# Altium schematic symbol library LTC2325.SchLib: 1 symbol
Pins are listed as number, name and electrical type; pins without a type are passive.

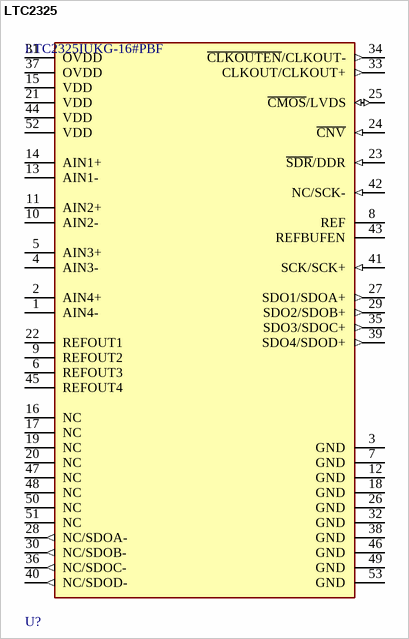
[diagram p0: symbol LTC2325]

## LTC2325
designator U?, comment LTC2325IUKG-16#PBF
IC ADC 16BIT SAR 52QFN
footprint FP-UKG-52-05-08-1729-MFG
footprint FP-UKG-52-05-08-1729-IPC_B
footprint FP-UKG-52-05-08-1729-IPC_A
footprint FP-UKG-52-05-08-1729-IPC_C
pins: 1 AIN4- (hiz), 2 AIN4+ (hiz), 3 GND (power), 4 AIN3- (hiz), 5 AIN3+ (hiz), 6 REFOUT3, 7 GND (power), 8 REF, 9 REFOUT2, 10 AIN2- (hiz), 11 AIN2+ (hiz), 12 GND (power), 13 AIN1- (hiz), 14 AIN1+ (hiz), 15 VDD (power), 16 NC, 17 NC, 18 GND (power), 19 NC, 20 NC, 21 VDD (power), 22 REFOUT1, 23 ~{SDR}/DDR (in), 24 ~{CNV} (in), 25 ~{CMOS}/LVDS (io), 26 GND (power), 27 SDO1/SDOA+ (out), 28 NC/SDOA- (out), 29 SDO2/SDOB+ (out), 30 NC/SDOB- (out), 31 OVDD (power), 32 GND (power), 33 CLKOUT/CLKOUT+ (out), 34 ~{CLKOUTEN}/CLKOUT- (out), 35 SDO3/SDOC+ (out), 36 NC/SDOC- (out), 37 OVDD (power), 38 GND (power), 39 SDO4/SDOD+ (out), 40 NC/SDOD- (out), 41 SCK/SCK+ (in), 42 NC/SCK- (in), 43 REFBUFEN, 44 VDD (power), 45 REFOUT4, 46 GND (power), 47 NC, 48 NC, 49 GND (power), 50 NC, 51 NC, 52 VDD (power), 53 GND (power)